# Altium schematic symbol library TS555.Schlib: 1 symbol
Pins are listed as number, name and electrical type; pins without a type are passive.

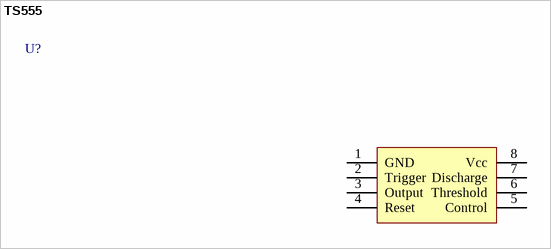
[diagram p0: symbol TS555]

## TS555
designator U?
pins: 1 GND, 2 Trigger, 3 Output, 4 Reset, 5 Control, 6 Threshold, 7 Discharge, 8 Vcc
1 alternate drawing of the same symbol